# EAGLE library part 0039281063 (library 0039281063)
Headers & Wire Housings MINI-FIT JR HDR 06P 94V-2 Source: Datasheet <https://www.arrow.com/en/products/0039281063/molex>
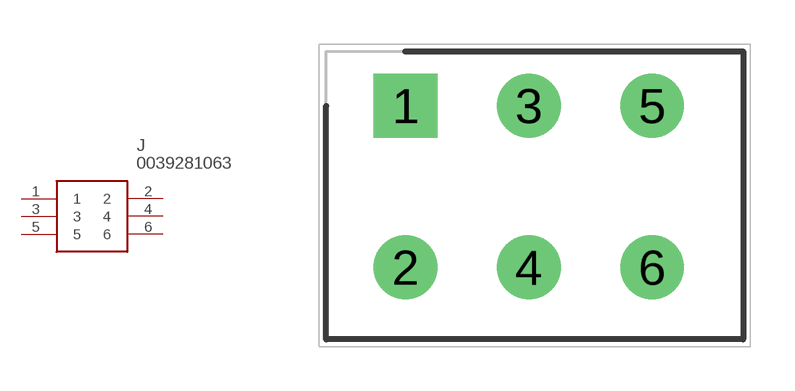
[diagram p0: symbol with the pads of SHDR6W125P550X420_2X3_1380X960; footprint SHDR6W125P550X420_2X3_1380X960]

Designator prefix J

## 0039281063 (Arrow_Part_Number: 0039281063; Arrow_Price-Stock: https://www.arrow.com/en/products/0039281063/molex?utm_currency=USD&region=nac; Description: Headers & Wire Housings MINI-FIT JR HDR 06P 94V-2; Height: 13.1mm; Manufacturer_Name: Molex; Manufacturer_Part_Number: 0039281063; Mouser_Part_Number: N/A; Mouser_Price-Stock: https://www.mouser.co.uk/ProductDetail/Molex/0039281063?qs=PBcRNPEHKsqrlal6cr9p2w%3D%3D)  [SHDR6W125P550X420_2X3_1380X960]
1  1
2  2
3  3
4  4
5  5
6  6

## Footprint SHDR6W125P550X420_2X3_1380X960 (pad centres in mm)
0039281063
drill 1.45 pad 2.175 square: 1 0,0
drill 1.45 pad 2.175: 2 0,-5.5; 3 4.2,0; 4 4.2,-5.5; 5 8.4,0; 6 8.4,-5.5